# Altium schematic symbol library SCH - DRIVER - LED - TI TLC5951_DAP_38.SchLib: 1 symbol
Pins are listed as number, name and electrical type; pins without a type are passive.

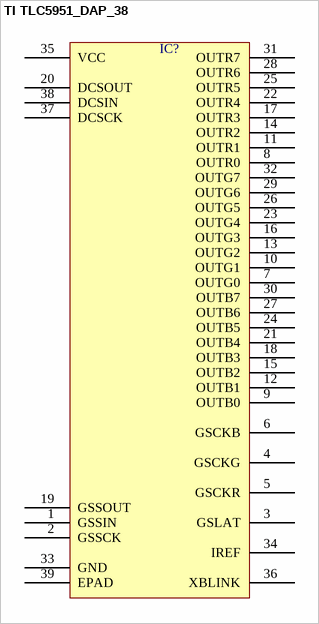
[diagram p0: symbol TI TLC5951_DAP_38]

## TI TLC5951_DAP_38
designator IC?  (value not drawn)
pins: 1 GSSIN, 2 GSSCK, 3 GSLAT, 4 GSCKG, 5 GSCKR, 6 GSCKB, 7 OUTG0, 8 OUTR0, 9 OUTB0, 10 OUTG1, 11 OUTR1, 12 OUTB1, 13 OUTG2, 14 OUTR2, 15 OUTB2, 16 OUTG3, 17 OUTR3, 18 OUTB3, 19 GSSOUT, 20 DCSOUT, 21 OUTB4, 22 OUTR4, 23 OUTG4, 24 OUTB5, 25 OUTR5, 26 OUTG5, 27 OUTB6, 28 OUTR6, 29 OUTG6, 30 OUTB7, 31 OUTR7, 32 OUTG7, 33 GND, 34 IREF, 35 VCC, 36 XBLINK, 37 DCSCK, 38 DCSIN, 39 EPAD